# EAGLE library part 74LVC74A (library 74xx-logic)
IC D-TYPE POS TRG DUA
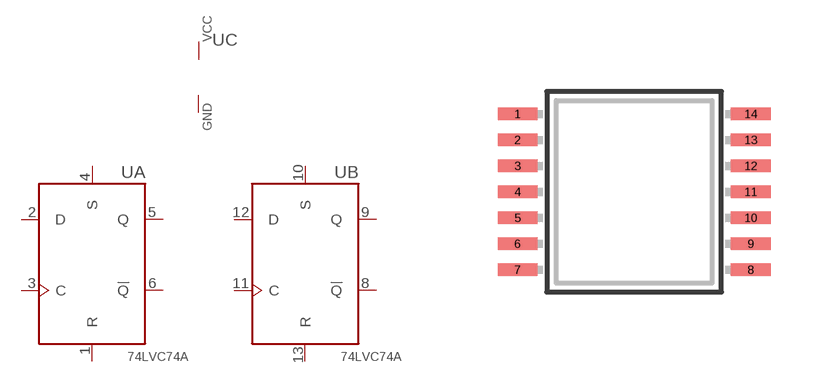
[diagram p2: symbol with the pads of TSSOP14; footprint TSSOP14]

Designator prefix U; gates C=PWRN A=D-FLIP-FLOP B=D-FLIP-FLOP

## 74LVC74A (DIGIKEY: 568-1588-5-ND; MFR: NXP; MPN: 74LVC74APW,112; PI1: o)  [TSSOP14]
1  A:R
2  A:D
3  A:C
4  A:S
5  A:Q
6  A:!Q
7  C:GND  pwr
8  B:!Q
9  B:Q
10  B:S
11  B:C
12  B:D
13  B:R
14  C:VCC  pwr

## Footprint TSSOP14 (pad centres in mm)
Thin Shrink Small Outline Plastic 14
smd 0.991 x 0.305: 1 -2.918,1.95; 2 -2.918,1.3; 3 -2.918,0.65; 4 -2.918,0; 5 -2.918,-0.65; 6 -2.918,-1.3; 7 -2.918,-1.95; 8 2.918,-1.95; 9 2.918,-1.3; 10 2.918,-0.65; 11 2.918,0; 12 2.918,0.65; 13 2.918,1.3; 14 2.918,1.95